# EAGLE library part TMUX1104DGSR (library tmux1104)
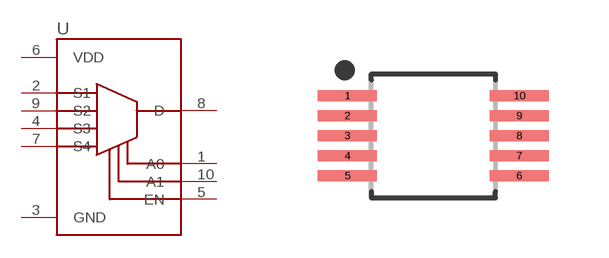
[diagram p0: symbol with the pads of SOP50P490X110-10N; footprint SOP50P490X110-10N]

Designator prefix U

## TMUX1104DGSR (DIGIKEY: 296-53437-1-ND; MFR: texas instruments; MFR_PN: MUX1104DGSR)  [SOP50P490X110-10N]
1  A0
2  S1
3  GND
4  S3
5  EN
6  VDD
7  S4
8  D
9  S2
10  A1

## Footprint SOP50P490X110-10N (pad centres in mm)
10-SOP, 0.50 mm pitch, 4.90 mm span, 3.00 X 3.00 X 1.10 mm body 10-pin SOP package with 0.50 mm pitch, 4.90 mm span with body size 3.00 X 3.00 X 1.10 mm
smd 1.471 x 0.28: 1 -2.15,1; 2 -2.15,0.5; 3 -2.15,0; 4 -2.15,-0.5; 5 -2.15,-1; 6 2.15,-1; 7 2.15,-0.5; 8 2.15,0; 9 2.15,0.5; 10 2.15,1